# Altium schematic symbol library CGA4J2C0G1H333J125AA.SchLib: 2 symbols
Pins are listed as number, name and electrical type; pins without a type are passive.

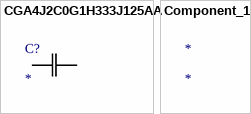
[diagram p0: symbols CGA4J2C0G1H333J125AA to Component_1]

## CGA4J2C0G1H333J125AA
designator C?
No Description Available; Mfr_Name: TDK
footprint CAP_2012_TDK
pins: 1, 2

## Component_1
designator *